# Altium schematic symbol library ELEC-DEM-555TimerLibrary.SCHLIB: 4 symbols
Pins are listed as number, name and electrical type; pins without a type are passive.

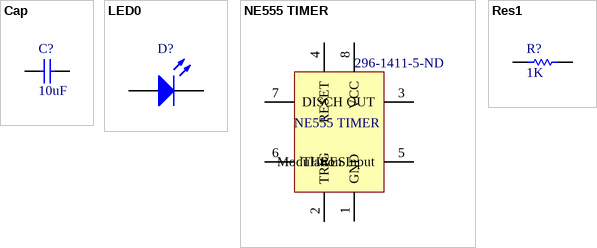
[diagram p0: symbols Cap to Res1]

## Cap
designator C?  value 10uF  (hidden comment: Cap)
Capacitor; Published: 8-Jun-2000; LatestRevisionDate: 17-Jul-2002; LatestRevisionNote: Re-released for DXP Platform.; PackageReference: RAD-0.3; Publisher: Altium Limited; PackageDescription: Radial Cap, Thru-Hole; 2 Leads; 0.3 in Pin Spacing
footprint RAD-0.3 (Radial Cap, Thru-Hole; 2 Leads; 0.3 in Pin Spacing)
simulation model CAP (Capacitor)
signal-integrity model Cap
pins: 1, 2

## LED0
designator D?  (value not drawn)
Typical INFRARED GaAs LED; Published: 8-Jun-2000; LatestRevisionDate: 08-Jul-2005; LatestRevisionNote: Mech Layer 1 removed.; PackageReference: LED-0; Publisher: Altium Limited; PackageDescription: LED; 2 Leads
footprint LED-0 (LED; 2 Leads)
simulation model LED0 (Diode)
pins: 1 A, 2 K

## NE555 TIMER
designator NE555 TIMER?  Supplier Part Number 2: 296-1411-5-ND
Supplier 1: Digi-Key; Supplier 2: Digi-Key
pins: 1 GND, 2 TRIG, 3 OUT, 4 RESET, 5 Modulation Input, 6 THRES, 7 DISCH, 8 VCC

## Res1
designator R?  value 1K  (hidden comment: Res1)
Resistor; Published: 8-Jun-2000; LatestRevisionDate: 17-Jul-2002; LatestRevisionNote: Re-released for DXP Platform.; PackageReference: AXIAL-0.3; Publisher: Altium Limited; PackageDescription: Axial Device, Thru-Hole; 2 Leads; 0.3 in Pin Spacing
footprint AXIAL-0.3 (Axial Device, Thru-Hole; 2 Leads; 0.3 in Pin Spacing)
simulation model RESISTOR (Resistor)
signal-integrity model Res
pins: 1, 2